# EAGLE library part SD-BUCHSE (library mbed-microcontroller)
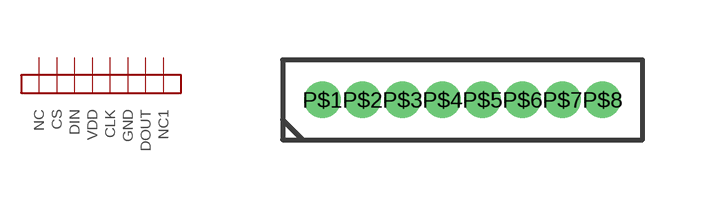
[diagram p15: symbol with the pads of SD_BUCHSE; footprint SD_BUCHSE]

Designator prefix -

## SD-BUCHSE  [SD_BUCHSE]
P$1  NC
P$2  CS
P$3  DIN
P$4  VDD
P$5  CLK
P$6  GND
P$7  DOUT
P$8  NC1

## Footprint SD_BUCHSE (pad centres in mm)
drill 0.4 pad 0.7: P$1 -3.5,0; P$2 -2.5,0; P$3 -1.5,0; P$4 -0.5,0; P$5 0.5,0; P$6 1.5,0; P$7 2.5,0; P$8 3.5,0